# Altium schematic symbol library Cap2.Schlib: 1 symbol
Pins are listed as number, name and electrical type; pins without a type are passive.

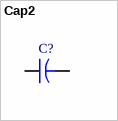
[diagram p0: symbol Cap2]

## Cap2
designator C?
Capacitor
pins: 1, 2